# EAGLE library part IC_PMIC_TC4427A (library lieBtrau)
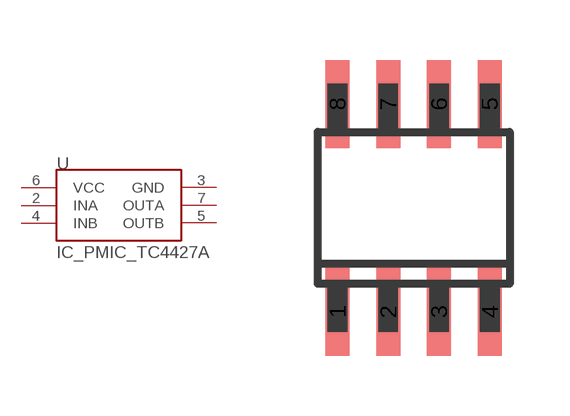
[diagram p1: symbol with the pads of SC_SO08; footprint SC_SO08]

Designator prefix U

## IC_PMIC_TC4427A_TC4427AEOA_EOA (COST: 1.19; ORDERCODE: TC4427AEOA-ND; VALUE: TC4427AEOA)  [SC_SO08]
2  INA
3  GND
4  INB
5  OUTB
6  VCC
7  OUTA

## Footprint SC_SO08 (pad centres in mm)
SMALL OUTLINE INTEGRATED CIRCUIT body 3.9 mm/JEDEC MS-012AA
smd 0.6 x 2.2: 1 -1.905,-2.6; 2 -0.635,-2.6; 3 0.635,-2.6; 4 1.905,-2.6; 5 1.905,2.6; 6 0.635,2.6; 7 -0.635,2.6; 8 -1.905,2.6